# Altium integrated library Analog Devices Data Converters Analog-to-Digital Converters.IntLib: 2404 symbols (part 325 of 346)
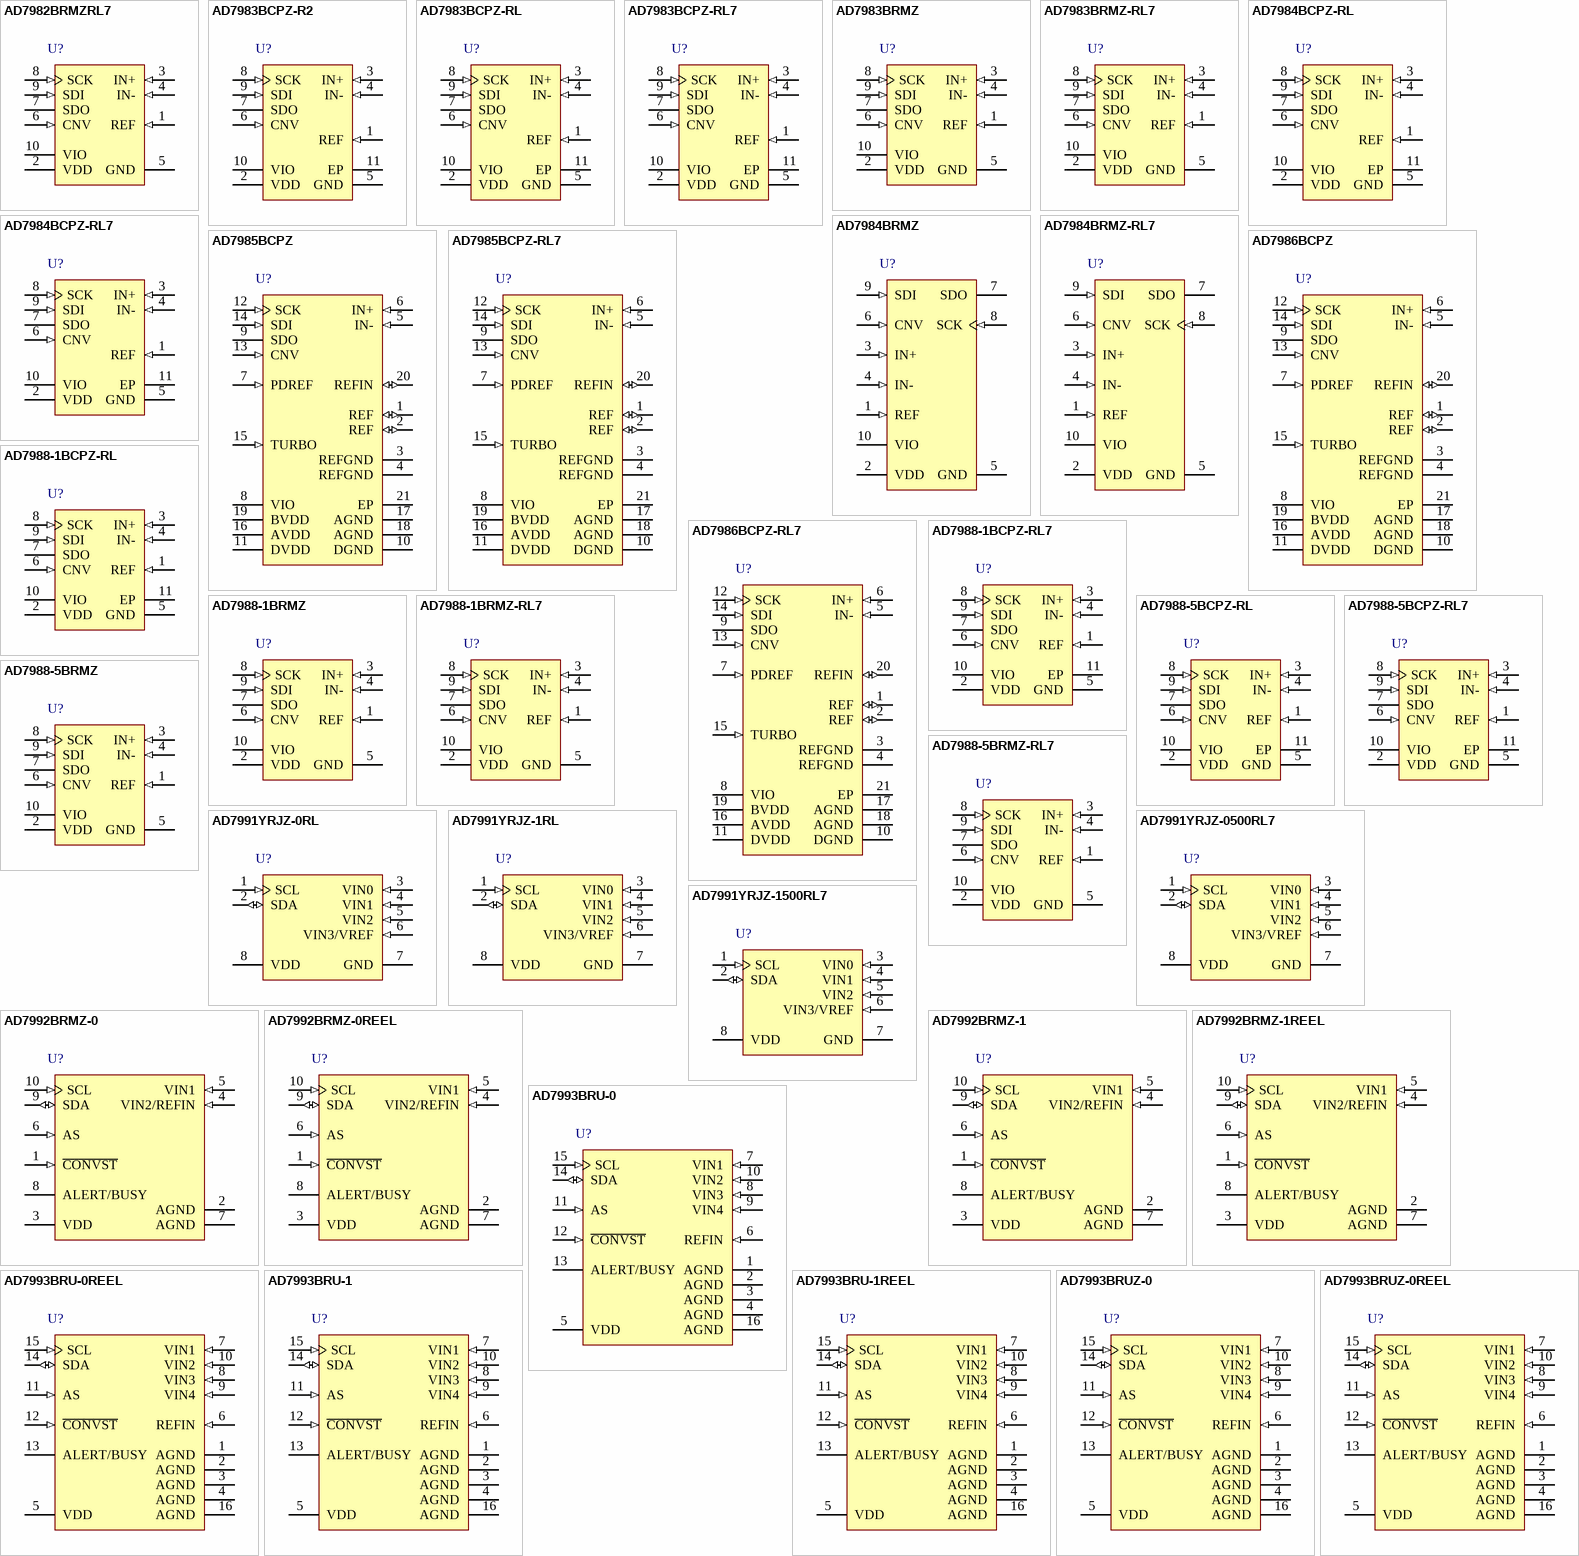
[diagram p329: symbols AD7982BRMZRL7 to AD7993BRUZ-0REEL]

## AD7986BCPZ-RL7
designator U?
Single 18-Bit PulSAR Analog-to-Digital Converter with Serial, SPI Interface, 2MSPS, -40 to +85 degC, CP-20-4, Pb-Free, Reel; Generic Part Number: AD7986; Manufacturer: Analog Devices; PartNumber: AD7986BCPZ-RL7; Resolution (Bits): 18; Channels: 1; Throughput Rate (SPS): 2M; Interface: Ser, SPI; DatasheetVersion: Rev.B; PackageVersion: 012508-B; PackageReference: CP-20-4; PackageDescription: 20-Lead Lead Frame Chip Scale Package [LFCSP_VQ] 4 x 4 mm Body, Very Thin Quad; Supplier 1: Digi-Key; Supplier Part Number 1: AD7986BCPZ-RL7-ND; Supplier 2: Mouser; Supplier Part Number 2: 584-AD7986BCPZ-R7; RoHS: Y; Packing: Reel; Mounting Technology: Surface Mount; Code_JEDEC: MO-220-VGGD-1; ComponentLink1Description: Manufacturer URL; ComponentLink1URL: http://www.analog.com/en/index.html; ComponentLink2Description: Datasheet; ComponentLink2URL: http://www.analog.com/static/imported-files/data_sheets/AD7986.pdf; ComponentLink3Description: Package Specification; ComponentLink3URL: http://www.analog.com/static/imported-files/packages/PKG_PDF/LFCSP(CP)/CP_20_4.pdf; ComponentLink4Description: Product URL; ComponentLink4URL: http://www.analog.com/en/analog-to-digital-converters/ad-converters/ad7986/products/product.html
footprint CP-20-4_N (QFN, 20-Leads, Body 4x4mm, Pitch 0.5mm, Thermal Pad 2.5x2.5mm, IPC Medium Density)
footprint CP-20-4_L (QFN, 20-Leads, Body 4x4mm, Pitch 0.5mm, Thermal Pad 2.5x2.5mm, IPC High Density)
footprint CP-20-4_M (QFN, 20-Leads, Body 4x4mm, Pitch 0.5mm, Thermal Pad 2.5x2.5mm, IPC Low Density)
pins: 1 REF (io) "Reference Output/Input Voltage. When PDREF = low, the internal reference and buffer are enabled, producing 4.096 V on this pin. When PDREF = high, the internal reference and buffer are disabled, allowing an externally (See Datasheet)", 2 REF (io) "Reference Output/Input Voltage. When PDREF = low, the internal reference and buffer are enabled, producing 4.096 V on this pin. When PDREF = high, the internal reference and buffer are disabled, allowing an externally (See Datasheet)", 3 REFGND (power) "Reference Input Analog Ground.", 4 REFGND (power) "Reference Input Analog Ground.", 5 IN- (in) "Differential Negative Analog Input.", 6 IN+ (in) "Differential Positive Analog Input.", 7 PDREF (in) "Internal Reference Power-Down Input. When low, the internal reference is enabled. When high, the internal reference is powered down and an external reference must be used.", 8 VIO (power) "Input/Output Interface Digital Power. Nominally at the same supply as the host interface (1.8 V, 2.5 V, or 2.7 V).", 9 SDO (hiz) "Serial Data Output. The conversion result is output on this pin. It is synchronized to SCK.", 10 DGND "Digital Power Ground.", 11 DVDD (power) "Digital Power. Nominally at 2.5 V.", 12 SCK (in) "Serial Data Clock Input. When the part is selected, the conversion result is shifted out by this clock.", 13 CNV (in) "Convert Input. This input has multiple functions. On its leading edge, it initiates the conversions and selects the interface mode of the part: chain mode or C\S\ mode. In C\S\ mode, the SDO pin is enabled when CNV is low. (See Datasheet)", 14 SDI (in) "Serial Data Input. This input provides multiple features. It selects the interface mode of the ADC as follows: Chain mode is selected if SDI is low during the CNV rising edge. In this mode, SDI is used as a data input to (See Datasheet)", 15 TURBO (in) "Conversion Mode Selection.When TURBO = high, the maximum throughput (2 MSPS) is achieved. The ADC does not power down between conversions. When TURBO = low, the maximum throughput is lower (1.5 MSPS). The ADC powers down (See Datasheet)", 16 AVDD (power) "Input Analog Power. Nominally at 2.5 V.", 17 AGND "Analog Power Ground.", 18 AGND "Analog Power Ground.", 19 BVDD (power) "Reference buffer power. Nominally 5.0 V. If an external reference buffer is used to achieve the maximum SNR performance with 5 V reference, the reference buffer must be powered down by connecting the REFIN pin to ground. The (See Datasheet)", 20 REFIN (io) "Internal Reference Output/Reference Buffer Input. When PDREF = low, the internal band gap reference produces a 1.2 V (typical) voltage on this pin, which needs external decoupling (0.1 µF typical). When PDREF = high, use an (See Datasheet)", 21 EP "The exposed pad is not connected internally. For increased reliability of the solder joints, it is recommended that the pad be soldered to the system ground plane."

## AD7988-1BCPZ-RL
designator U?
Single 16-Bit PulSAR Analog-to-Digital Converter with Serial, SPI Interface, 100KSPS, -40 to +125 degC, CP-10-9, Pb-Free, Reel; Generic Part Number: AD7988-1; Manufacturer: Analog Devices; PartNumber: AD7988-1BCPZ-RL; Resolution (Bits): 16; Channels: 1; Throughput Rate (SPS): 100K; Interface: Ser, SPI; DatasheetVersion: Rev.A; PackageVersion: 02-27-2012-B; PackageReference: CP-10-9; PackageDescription: 10-Lead Lead Frame Chip Scale Package [LFCSP_WD] 3 x 3 mm Body, Very Very Thin, Dual Lead; Supplier 1: Digi-Key; Supplier Part Number 1: AD7988-1BCPZ-RL-ND; Supplier 2: Mouser; Supplier Part Number 2: 584-AD7988-1BCPZ-R; RoHS: Y; Packing: Reel; Mounting Technology: Surface Mount; ComponentLink1Description: Manufacturer URL; ComponentLink1URL: http://www.analog.com/en/index.html; ComponentLink2Description: Datasheet; ComponentLink2URL: http://www.analog.com/static/imported-files/data_sheets/AD7988-1_7988-5.pdf; ComponentLink3Description: Package Specification; ComponentLink3URL: http://www.analog.com/static/imported-files/packages/CP_10_9.pdf; ComponentLink4Description: Product URL; ComponentLink4URL: http://www.analog.com/en/analog-to-digital-converters/ad-converters/ad7988-1/products/product.html
footprint CP-10-9_N (SON, 10-Leads, Body 3x3mm, Pitch 0.5mm, Thermal Pad 2.35x1.6mm, IPC Medium Density)
footprint CP-10-9_L (SON, 10-Leads, Body 3x3mm, Pitch 0.5mm, Thermal Pad 2.35x1.6mm, IPC High Density)
footprint CP-10-9_M (SON, 10-Leads, Body 3x3mm, Pitch 0.5mm, Thermal Pad 2.35x1.6mm, IPC Low Density)
pins: 1 REF (in) "Reference Input Voltage. The VREF range is from 2.4 V to 5.1 V. It is referred to the GND pin. The GND pin should be decoupled closely to the REF pin with a 10 uF capacitor.", 2 VDD (power) "Power Supply.", 3 IN+ (in) "Analog Input. It is referred to IN-. The voltage range, for example, the difference between IN+ and IN-, is 0 V to VREF.", 4 IN- (in) "Analog Input Ground Sense. Connect to the analog ground plane or to a remote sense ground.", 5 GND (power) "Power Supply Ground.", 6 CNV (in) "Convert Input. This input has multiple functions. On its leading edge, it initiates the conversions and selects the interface mode of the part: chain mode or C\S\ mode. In C\S\ mode, the SDO pin is enabled when CNV is low. (See Datasheet)", 7 SDO (hiz) "Serial Data Output. The conversion result is output on this pin. It is synchronized to SCK.", 8 SCK (in) "Serial Data Clock Input. When the part is selected, the conversion result is shifted out by this clock.", 9 SDI (in) "Serial Data Input. This input provides multiple features. It selects the interface mode of the ADC as follows: Chain mode is selected if this pin is low during the CNV rising edge. In this mode, SDI is used as a data input (See Datasheet)", 10 VIO (power) "Input/Output Interface Digital Power. Nominally at the same supply as the host interface (1.8 V, 2.5 V, 3 V, or 5 V).", 11 EP (power) "Exposed Pad. The exposed pad can be connected to GND."

## AD7988-1BCPZ-RL7
designator U?
Single 16-Bit PulSAR Analog-to-Digital Converter with Serial, SPI Interface, 100KSPS, -40 to +125 degC, CP-10-9, Pb-Free, Reel; Generic Part Number: AD7988-1; Manufacturer: Analog Devices; PartNumber: AD7988-1BCPZ-RL7; Resolution (Bits): 16; Channels: 1; Throughput Rate (SPS): 100K; Interface: Ser, SPI; DatasheetVersion: Rev.A; PackageVersion: 02-27-2012-B; PackageReference: CP-10-9; PackageDescription: 10-Lead Lead Frame Chip Scale Package [LFCSP_WD] 3 x 3 mm Body, Very Very Thin, Dual Lead; Supplier 1: Digi-Key; Supplier Part Number 1: AD7988-1BCPZ-RL7TR-ND; Supplier 2: Digi-Key; Supplier Part Number 2: AD7988-1BCPZ-RL7CT-ND; Supplier 3: Digi-Key; Supplier Part Number 3: AD7988-1BCPZ-RL7DKR-ND; Supplier 4: Mouser; Supplier Part Number 4: 584-AD7988-1BCPZ-R7; RoHS: Y; Packing: Reel; Mounting Technology: Surface Mount; ComponentLink1Description: Manufacturer URL; ComponentLink1URL: http://www.analog.com/en/index.html; ComponentLink2Description: Datasheet; ComponentLink2URL: http://www.analog.com/static/imported-files/data_sheets/AD7988-1_7988-5.pdf; ComponentLink3Description: Package Specification; ComponentLink3URL: http://www.analog.com/static/imported-files/packages/CP_10_9.pdf; ComponentLink4Description: Product URL; ComponentLink4URL: http://www.analog.com/en/analog-to-digital-converters/ad-converters/ad7988-1/products/product.html
footprint CP-10-9_N (SON, 10-Leads, Body 3x3mm, Pitch 0.5mm, Thermal Pad 2.35x1.6mm, IPC Medium Density)
footprint CP-10-9_L (SON, 10-Leads, Body 3x3mm, Pitch 0.5mm, Thermal Pad 2.35x1.6mm, IPC High Density)
footprint CP-10-9_M (SON, 10-Leads, Body 3x3mm, Pitch 0.5mm, Thermal Pad 2.35x1.6mm, IPC Low Density)
pins: 1 REF (in) "Reference Input Voltage. The VREF range is from 2.4 V to 5.1 V. It is referred to the GND pin. The GND pin should be decoupled closely to the REF pin with a 10 uF capacitor.", 2 VDD (power) "Power Supply.", 3 IN+ (in) "Analog Input. It is referred to IN-. The voltage range, for example, the difference between IN+ and IN-, is 0 V to VREF.", 4 IN- (in) "Analog Input Ground Sense. Connect to the analog ground plane or to a remote sense ground.", 5 GND (power) "Power Supply Ground.", 6 CNV (in) "Convert Input. This input has multiple functions. On its leading edge, it initiates the conversions and selects the interface mode of the part: chain mode or C\S\ mode. In C\S\ mode, the SDO pin is enabled when CNV is low. (See Datasheet)", 7 SDO (hiz) "Serial Data Output. The conversion result is output on this pin. It is synchronized to SCK.", 8 SCK (in) "Serial Data Clock Input. When the part is selected, the conversion result is shifted out by this clock.", 9 SDI (in) "Serial Data Input. This input provides multiple features. It selects the interface mode of the ADC as follows: Chain mode is selected if this pin is low during the CNV rising edge. In this mode, SDI is used as a data input (See Datasheet)", 10 VIO (power) "Input/Output Interface Digital Power. Nominally at the same supply as the host interface (1.8 V, 2.5 V, 3 V, or 5 V).", 11 EP (power) "Exposed Pad. The exposed pad can be connected to GND."

## AD7988-1BRMZ
designator U?
Single 16-Bit PulSAR Analog-to-Digital Converter with Serial, SPI Interface, 100KSPS, -40 to +125 degC, RM-10, Pb-Free, Tube; Generic Part Number: AD7988-1; Manufacturer: Analog Devices; PartNumber: AD7988-1BRMZ; Resolution (Bits): 16; Channels: 1; Throughput Rate (SPS): 100K; Interface: Ser, SPI; DatasheetVersion: Rev.A; PackageVersion: May-2005; PackageReference: RM-10; PackageDescription: 10-Lead Mini Small Outline Package [MSOP]; Supplier 1: Digi-Key; Supplier Part Number 1: AD7988-1BRMZ-ND; Supplier 2: Farnell; Supplier Part Number 2: 2081023; Supplier 3: Newark; Supplier Part Number 3: 82T3697; Supplier 4: Mouser; Supplier Part Number 4: 584-AD7988-1BRMZ; RoHS: Y; Packing: Tube; Mounting Technology: Surface Mount; ComponentLink1Description: Manufacturer URL; ComponentLink1URL: http://www.analog.com/en/index.html; ComponentLink2Description: Datasheet; ComponentLink2URL: http://www.analog.com/static/imported-files/data_sheets/AD7988-1_7988-5.pdf; ComponentLink3Description: Package Specification; ComponentLink3URL: http://www.analog.com/static/imported-files/packages/PKG_PDF/MSOP%28RM%29/RM_10.pdf; ComponentLink4Description: Product URL; ComponentLink4URL: http://www.analog.com/en/analog-to-digital-converters/ad-converters/ad7988-1/products/product.html
footprint RM-10_N (TSSOP, 10-Leads, Body 3x3mm, Pitch 0.5mm, IPC Medium Density)
footprint RM-10_L (TSSOP, 10-Leads, Body 3x3mm, Pitch 0.5mm, IPC High Density)
footprint RM-10_M (TSSOP, 10-Leads, Body 3x3mm, Pitch 0.5mm, IPC Low Density)
pins: 1 REF (in) "Reference Input Voltage. The VREF range is from 2.4 V to 5.1 V. It is referred to the GND pin. The GND pin should be decoupled closely to the REF pin with a 10 uF capacitor.", 2 VDD (power) "Power Supply", 3 IN+ (in) "Analog Input. It is referred to IN-. The voltage range, for example, the difference between IN+ and IN-, is 0 V to VREF", 4 IN- (in) "Analog Input Ground Sense. Connect to the analog ground plane or to a remote sense ground.", 5 GND (power) "Power Supply Ground.", 6 CNV (in) "Convert Input. This input has multiple functions. On its leading edge, it initiates the conversions and selects the interface mode of the part: chain mode or C\S\ mode. In C\S\ mode, the SDO pin is enabled when CNV is low. (See Datasheet)", 7 SDO (hiz) "Serial Data Output. The conversion result is output on this pin. It is synchronized to SCK.", 8 SCK (in) "Serial Data Clock Input. When the part is selected, the conversion result is shifted out by this clock.", 9 SDI (in) "Serial Data Input. This input provides multiple features. It selects the interface mode of the ADC as follows: Chain mode is selected if this pin is low during the CNV rising edge. In this mode, SDI is used as a data input (See Datasheet)", 10 VIO (power) "Input/Output Interface Digital Power. Nominally at the same supply as the host interface (1.8 V, 2.5 V, 3 V, or 5 V)."

## AD7988-1BRMZ-RL7
designator U?
Single 16-Bit PulSAR Analog-to-Digital Converter with Serial, SPI Interface, 100KSPS, -40 to +125 degC, RM-10, Pb-Free, Reel; Generic Part Number: AD7988-1; Manufacturer: Analog Devices; PartNumber: AD7988-1BRMZ-RL7; Resolution (Bits): 16; Channels: 1; Throughput Rate (SPS): 100K; Interface: Ser, SPI; DatasheetVersion: Rev.A; PackageVersion: May-2005; PackageReference: RM-10; PackageDescription: 10-Lead Mini Small Outline Package [MSOP]; Supplier 1: Digi-Key; Supplier Part Number 1: AD7988-1BRMZ-RL7-ND; Supplier 2: Mouser; Supplier Part Number 2: 584-AD7988-1BRMZ-R7; RoHS: Y; Packing: Reel; Mounting Technology: Surface Mount; ComponentLink1Description: Manufacturer URL; ComponentLink1URL: http://www.analog.com/en/index.html; ComponentLink2Description: Datasheet; ComponentLink2URL: http://www.analog.com/static/imported-files/data_sheets/AD7988-1_7988-5.pdf; ComponentLink3Description: Package Specification; ComponentLink3URL: http://www.analog.com/static/imported-files/packages/PKG_PDF/MSOP%28RM%29/RM_10.pdf; ComponentLink4Description: Product URL; ComponentLink4URL: http://www.analog.com/en/analog-to-digital-converters/ad-converters/ad7988-1/products/product.html
footprint RM-10_N (TSSOP, 10-Leads, Body 3x3mm, Pitch 0.5mm, IPC Medium Density)
footprint RM-10_L (TSSOP, 10-Leads, Body 3x3mm, Pitch 0.5mm, IPC High Density)
footprint RM-10_M (TSSOP, 10-Leads, Body 3x3mm, Pitch 0.5mm, IPC Low Density)
pins: 1 REF (in) "Reference Input Voltage. The VREF range is from 2.4 V to 5.1 V. It is referred to the GND pin. The GND pin should be decoupled closely to the REF pin with a 10 uF capacitor.", 2 VDD (power) "Power Supply", 3 IN+ (in) "Analog Input. It is referred to IN-. The voltage range, for example, the difference between IN+ and IN-, is 0 V to VREF", 4 IN- (in) "Analog Input Ground Sense. Connect to the analog ground plane or to a remote sense ground.", 5 GND (power) "Power Supply Ground.", 6 CNV (in) "Convert Input. This input has multiple functions. On its leading edge, it initiates the conversions and selects the interface mode of the part: chain mode or C\S\ mode. In C\S\ mode, the SDO pin is enabled when CNV is low. (See Datasheet)", 7 SDO (hiz) "Serial Data Output. The conversion result is output on this pin. It is synchronized to SCK.", 8 SCK (in) "Serial Data Clock Input. When the part is selected, the conversion result is shifted out by this clock.", 9 SDI (in) "Serial Data Input. This input provides multiple features. It selects the interface mode of the ADC as follows: Chain mode is selected if this pin is low during the CNV rising edge. In this mode, SDI is used as a data input (See Datasheet)", 10 VIO (power) "Input/Output Interface Digital Power. Nominally at the same supply as the host interface (1.8 V, 2.5 V, 3 V, or 5 V)."

## AD7988-5BCPZ-RL
designator U?
Single 16-Bit PulSAR Analog-to-Digital Converter with Serial, SPI Interface, 500KSPS, -40 to +125 degC, CP-10-9, Pb-Free, Reel; Generic Part Number: AD7988-5; Manufacturer: Analog Devices; PartNumber: AD7988-5BCPZ-RL; Resolution (Bits): 16; Channels: 1; Throughput Rate (SPS): 500K; Interface: Ser, SPI; DatasheetVersion: Rev.A; PackageVersion: 02-27-2012-B; PackageReference: CP-10-9; PackageDescription: 10-Lead Lead Frame Chip Scale Package [LFCSP_WD] 3 x 3 mm Body, Very Very Thin, Dual Lead; Supplier 1: Digi-Key; Supplier Part Number 1: AD7988-5BCPZ-RL-ND; Supplier 2: Newark; Supplier Part Number 2: 94T0058; Supplier 3: Mouser; Supplier Part Number 3: 584-AD7988-5BCPZ-R; RoHS: Y; Packing: Reel; Mounting Technology: Surface Mount; ComponentLink1Description: Manufacturer URL; ComponentLink1URL: http://www.analog.com/en/index.html; ComponentLink2Description: Datasheet; ComponentLink2URL: http://www.analog.com/static/imported-files/data_sheets/AD7988-1_7988-5.pdf; ComponentLink3Description: Package Specification; ComponentLink3URL: http://www.analog.com/static/imported-files/packages/CP_10_9.pdf; ComponentLink4Description: Product URL; ComponentLink4URL: http://www.analog.com/en/analog-to-digital-converters/ad-converters/ad7988-5/products/product.html
footprint CP-10-9_N (SON, 10-Leads, Body 3x3mm, Pitch 0.5mm, Thermal Pad 2.35x1.6mm, IPC Medium Density)
footprint CP-10-9_L (SON, 10-Leads, Body 3x3mm, Pitch 0.5mm, Thermal Pad 2.35x1.6mm, IPC High Density)
footprint CP-10-9_M (SON, 10-Leads, Body 3x3mm, Pitch 0.5mm, Thermal Pad 2.35x1.6mm, IPC Low Density)
pins: 1 REF (in) "Reference Input Voltage. The VREF range is from 2.4 V to 5.1 V. It is referred to the GND pin. The GND pin should be decoupled closely to the REF pin with a 10 uF capacitor.", 2 VDD (power) "Power Supply.", 3 IN+ (in) "Analog Input. It is referred to IN?. The voltage range, for example, the difference between IN+ and IN-, is 0 V to VREF.", 4 IN- (in) "Analog Input Ground Sense. Connect to the analog ground plane or to a remote sense ground.", 5 GND (power) "Power Supply Ground.", 6 CNV (in) "Convert Input. This input has multiple functions. On its leading edge, it initiates the conversions and selects the interface mode of the part: chain mode or C\S\ mode. In C\S\ mode, the SDO pin is enabled when CNV is low. (See Datasheet)", 7 SDO (hiz) "Serial Data Output. The conversion result is output on this pin. It is synchronized to SCK.", 8 SCK (in) "Serial Data Clock Input. When the part is selected, the conversion result is shifted out by this clock.", 9 SDI (in) "Serial Data Input. This input provides multiple features. It selects the interface mode of the ADC as follows: Chain mode is selected if this pin is low during the CNV rising edge. In this mode, SDI is used as a data input (See Datasheet)", 10 VIO (power) "Input/Output Interface Digital Power. Nominally at the same supply as the host interface (1.8 V, 2.5 V, 3 V, or 5 V).", 11 EP (power) "Exposed Pad. The exposed pad can be connected to GND."

## AD7988-5BCPZ-RL7
designator U?
Single 16-Bit PulSAR Analog-to-Digital Converter with Serial, SPI Interface, 500KSPS, -40 to +125 degC, CP-10-9, Pb-Free, Reel; Generic Part Number: AD7988-5; Manufacturer: Analog Devices; PartNumber: AD7988-5BCPZ-RL7; Resolution (Bits): 16; Channels: 1; Throughput Rate (SPS): 500K; Interface: Ser, SPI; DatasheetVersion: Rev.A; PackageVersion: 02-27-2012-B; PackageReference: CP-10-9; PackageDescription: 10-Lead Lead Frame Chip Scale Package [LFCSP_WD] 3 x 3 mm Body, Very Very Thin, Dual Lead; Supplier 1: Digi-Key; Supplier Part Number 1: AD7988-5BCPZ-RL7TR-ND; Supplier 2: Digi-Key; Supplier Part Number 2: AD7988-5BCPZ-RL7CT-ND; Supplier 3: Digi-Key; Supplier Part Number 3: AD7988-5BCPZ-RL7DKR-ND; Supplier 4: Mouser; Supplier Part Number 4: 584-AD7988-5BCPZ-R7; RoHS: Y; Packing: Reel; Mounting Technology: Surface Mount; ComponentLink1Description: Manufacturer URL; ComponentLink1URL: http://www.analog.com/en/index.html; ComponentLink2Description: Datasheet; ComponentLink2URL: http://www.analog.com/static/imported-files/data_sheets/AD7988-1_7988-5.pdf; ComponentLink3Description: Package Specification; ComponentLink3URL: http://www.analog.com/static/imported-files/packages/CP_10_9.pdf; ComponentLink4Description: Product URL; ComponentLink4URL: http://www.analog.com/en/analog-to-digital-converters/ad-converters/ad7988-5/products/product.html
footprint CP-10-9_N (SON, 10-Leads, Body 3x3mm, Pitch 0.5mm, Thermal Pad 2.35x1.6mm, IPC Medium Density)
footprint CP-10-9_L (SON, 10-Leads, Body 3x3mm, Pitch 0.5mm, Thermal Pad 2.35x1.6mm, IPC High Density)
footprint CP-10-9_M (SON, 10-Leads, Body 3x3mm, Pitch 0.5mm, Thermal Pad 2.35x1.6mm, IPC Low Density)
pins: 1 REF (in) "Reference Input Voltage. The VREF range is from 2.4 V to 5.1 V. It is referred to the GND pin. The GND pin should be decoupled closely to the REF pin with a 10 uF capacitor.", 2 VDD (power) "Power Supply.", 3 IN+ (in) "Analog Input. It is referred to IN?. The voltage range, for example, the difference between IN+ and IN-, is 0 V to VREF.", 4 IN- (in) "Analog Input Ground Sense. Connect to the analog ground plane or to a remote sense ground.", 5 GND (power) "Power Supply Ground.", 6 CNV (in) "Convert Input. This input has multiple functions. On its leading edge, it initiates the conversions and selects the interface mode of the part: chain mode or C\S\ mode. In C\S\ mode, the SDO pin is enabled when CNV is low. (See Datasheet)", 7 SDO (hiz) "Serial Data Output. The conversion result is output on this pin. It is synchronized to SCK.", 8 SCK (in) "Serial Data Clock Input. When the part is selected, the conversion result is shifted out by this clock.", 9 SDI (in) "Serial Data Input. This input provides multiple features. It selects the interface mode of the ADC as follows: Chain mode is selected if this pin is low during the CNV rising edge. In this mode, SDI is used as a data input (See Datasheet)", 10 VIO (power) "Input/Output Interface Digital Power. Nominally at the same supply as the host interface (1.8 V, 2.5 V, 3 V, or 5 V).", 11 EP (power) "Exposed Pad. The exposed pad can be connected to GND."

## AD7988-5BRMZ
designator U?
Single 16-Bit PulSAR Analog-to-Digital Converter with Serial, SPI Interface, 500KSPS, -40 to +125 degC, RM-10, Pb-Free, Tube; Generic Part Number: AD7988-5; Manufacturer: Analog Devices; PartNumber: AD7988-5BRMZ; Resolution (Bits): 16; Channels: 1; Throughput Rate (SPS): 500K; Interface: Ser, SPI; DatasheetVersion: Rev.A; PackageVersion: May-2005; PackageReference: RM-10; PackageDescription: 10-Lead Mini Small Outline Package [MSOP]; Supplier 1: Digi-Key; Supplier Part Number 1: AD7988-5BRMZ-ND; Supplier 2: Farnell; Supplier Part Number 2: 2081026; Supplier 3: Newark; Supplier Part Number 3: 82T3699; Supplier 4: Newark; Supplier Part Number 4: 83T2177; Supplier 5: Mouser; Supplier Part Number 5: 584-AD7988-5BRMZ; RoHS: Y; Packing: Tube; Mounting Technology: Surface Mount; ComponentLink1Description: Manufacturer URL; ComponentLink1URL: http://www.analog.com/en/index.html; ComponentLink2Description: Datasheet; ComponentLink2URL: http://www.analog.com/static/imported-files/data_sheets/AD7988-1_7988-5.pdf; ComponentLink3Description: Package Specification; ComponentLink3URL: http://www.analog.com/static/imported-files/packages/PKG_PDF/MSOP%28RM%29/RM_10.pdf; ComponentLink4Description: Product URL; ComponentLink4URL: http://www.analog.com/en/analog-to-digital-converters/ad-converters/ad7988-5/products/product.html
footprint RM-10_N (TSSOP, 10-Leads, Body 3x3mm, Pitch 0.5mm, IPC Medium Density)
footprint RM-10_L (TSSOP, 10-Leads, Body 3x3mm, Pitch 0.5mm, IPC High Density)
footprint RM-10_M (TSSOP, 10-Leads, Body 3x3mm, Pitch 0.5mm, IPC Low Density)
pins: 1 REF (in) "Reference Input Voltage. The VREF range is from 2.4 V to 5.1 V. It is referred to the GND pin. The GND pin should be decoupled closely to the REF pin with a 10 uF capacitor.", 2 VDD (power) "Power Supply", 3 IN+ (in) "Analog Input. It is referred to IN-. The voltage range, for example, the difference between IN+ and IN-, is 0 V to VREF", 4 IN- (in) "Analog Input Ground Sense. Connect to the analog ground plane or to a remote sense ground.", 5 GND (power) "Power Supply Ground.", 6 CNV (in) "Convert Input. This input has multiple functions. On its leading edge, it initiates the conversions and selects the interface mode of the part: chain mode or C\S\ mode. In C\S\ mode, the SDO pin is enabled when CNV is low. (See Datasheet)", 7 SDO (hiz) "Serial Data Output. The conversion result is output on this pin. It is synchronized to SCK.", 8 SCK (in) "Serial Data Clock Input. When the part is selected, the conversion result is shifted out by this clock.", 9 SDI (in) "Serial Data Input. This input provides multiple features. It selects the interface mode of the ADC as follows: Chain mode is selected if this pin is low during the CNV rising edge. In this mode, SDI is used as a data input (See Datasheet)", 10 VIO (power) "Input/Output Interface Digital Power. Nominally at the same supply as the host interface (1.8 V, 2.5 V, 3 V, or 5 V)."

## AD7988-5BRMZ-RL7
designator U?
Single 16-Bit PulSAR Analog-to-Digital Converter with Serial, SPI Interface, 500KSPS, -40 to +125 degC, RM-10, Pb-Free, Reel; Generic Part Number: AD7988-5; Manufacturer: Analog Devices; PartNumber: AD7988-5BRMZ-RL7; Resolution (Bits): 16; Channels: 1; Throughput Rate (SPS): 500K; Interface: Ser, SPI; DatasheetVersion: Rev.A; PackageVersion: May-2005; PackageReference: RM-10; PackageDescription: 10-Lead Mini Small Outline Package [MSOP]; Supplier 1: Digi-Key; Supplier Part Number 1: AD7988-5BRMZ-RL7-ND; Supplier 2: Newark; Supplier Part Number 2: 82T3700; Supplier 3: Mouser; Supplier Part Number 3: 584-AD7988-5BRMZ-R7; RoHS: Y; Packing: Reel; Mounting Technology: Surface Mount; ComponentLink1Description: Manufacturer URL; ComponentLink1URL: http://www.analog.com/en/index.html; ComponentLink2Description: Datasheet; ComponentLink2URL: http://www.analog.com/static/imported-files/data_sheets/AD7988-1_7988-5.pdf; ComponentLink3Description: Package Specification; ComponentLink3URL: http://www.analog.com/static/imported-files/packages/PKG_PDF/MSOP%28RM%29/RM_10.pdf; ComponentLink4Description: Product URL; ComponentLink4URL: http://www.analog.com/en/analog-to-digital-converters/ad-converters/ad7988-5/products/product.html
footprint RM-10_N (TSSOP, 10-Leads, Body 3x3mm, Pitch 0.5mm, IPC Medium Density)
footprint RM-10_L (TSSOP, 10-Leads, Body 3x3mm, Pitch 0.5mm, IPC High Density)
footprint RM-10_M (TSSOP, 10-Leads, Body 3x3mm, Pitch 0.5mm, IPC Low Density)
pins: 1 REF (in) "Reference Input Voltage. The VREF range is from 2.4 V to 5.1 V. It is referred to the GND pin. The GND pin should be decoupled closely to the REF pin with a 10 uF capacitor.", 2 VDD (power) "Power Supply", 3 IN+ (in) "Analog Input. It is referred to IN-. The voltage range, for example, the difference between IN+ and IN-, is 0 V to VREF", 4 IN- (in) "Analog Input Ground Sense. Connect to the analog ground plane or to a remote sense ground.", 5 GND (power) "Power Supply Ground.", 6 CNV (in) "Convert Input. This input has multiple functions. On its leading edge, it initiates the conversions and selects the interface mode of the part: chain mode or C\S\ mode. In C\S\ mode, the SDO pin is enabled when CNV is low. (See Datasheet)", 7 SDO (hiz) "Serial Data Output. The conversion result is output on this pin. It is synchronized to SCK.", 8 SCK (in) "Serial Data Clock Input. When the part is selected, the conversion result is shifted out by this clock.", 9 SDI (in) "Serial Data Input. This input provides multiple features. It selects the interface mode of the ADC as follows: Chain mode is selected if this pin is low during the CNV rising edge. In this mode, SDI is used as a data input (See Datasheet)", 10 VIO (power) "Input/Output Interface Digital Power. Nominally at the same supply as the host interface (1.8 V, 2.5 V, 3 V, or 5 V)."

## AD7991YRJZ-0RL
designator U?
Quad 12-Bit Analog-to-Digital Converter with I2C, Serial 2-Wire Interface, 140KSPS, -40 to +125 degC, RJ-8, Pb-Free, Reel; Generic Part Number: AD7991; Manufacturer: Analog Devices; PartNumber: AD7991YRJZ-0RL; Resolution (Bits): 12; Channels: 4; Throughput Rate (SPS): 140K; Interface: I2C/Ser 2-Wire; DatasheetVersion: Rev.B; PackageVersion: 121608-A; PackageReference: RJ-8; PackageDescription: 8-Lead Thin Small Outline Transistor Package [SOT-23]; Supplier 1: Digi-Key; Supplier Part Number 1: AD7991YRJZ-0RL-ND; Supplier 2: Newark; Supplier Part Number 2: 77M9949; Supplier 3: Mouser; Supplier Part Number 3: 584-AD7991YRJZ-0R; RoHS: Y; Packing: Reel; Mounting Technology: Surface Mount; Code_JEDEC: MO-178-BA; ComponentLink1Description: Manufacturer URL; ComponentLink1URL: http://www.analog.com/en/index.html; ComponentLink2Description: Datasheet; ComponentLink2URL: http://www.analog.com/static/imported-files/data_sheets/AD7991_7995_7999.pdf; ComponentLink3Description: Package Specification; ComponentLink3URL: http://www.analog.com/static/imported-files/packages/PKG_PDF/SOT-23(RJ)/RJ_8.pdf; ComponentLink4Description: Product URL; ComponentLink4URL: http://www.analog.com/en/analog-to-digital-converters/ad-converters/ad7991/products/product.html
footprint RJ-8_N (SOP, 8-Leads, Body 2.9x1.6mm, Pitch 0.65mm, IPC Medium Density)
footprint RJ-8_L (SOP, 8-Leads, Body 2.9x1.6mm, Pitch 0.65mm, IPC High Density)
footprint RJ-8_M (SOP, 8-Leads, Body 2.9x1.6mm, Pitch 0.65mm, IPC Low Density)
pins: 1 SCL (in) "Digital Input. Serial bus clock. External pull-up resistor required.", 2 SDA (io) "Digital I/O. Serial bus bidirectional data. Open-drain output. External pull-up resistor required.", 3 VIN0 (in) "Analog Input 1. Single-ended analog input channel. The input range is 0 V to VREF.", 4 VIN1 (in) "Analog Input 2. Single-ended analog input channel. The input range is 0 V to VREF.", 5 VIN2 (in) "Analog Input 3. Single-ended analog input channel. The input range is 0 V to VREF.", 6 VIN3/VREF (in) "Analog Input 4. Single-ended analog input channel. The input range is 0 V to VREF. Can also be used to input an external VREF signal.", 7 GND (power) "Analog Ground. Ground reference point for all circuitry on the AD7991/AD7995/AD7999. All analog input signals should be referred to this AGND voltage.", 8 VDD (power) "Power Supply Input. The VDD range for the AD7991/AD7995/AD7999 is from 2.7 V to 5.5 V."

## AD7991YRJZ-1RL
designator U?
Quad 12-Bit Analog-to-Digital Converter with I2C, Serial 2-Wire Interface, 140KSPS, -40 to +125 degC, RJ-8, Pb-Free, Reel; Generic Part Number: AD7991; Manufacturer: Analog Devices; PartNumber: AD7991YRJZ-1RL; Resolution (Bits): 12; Channels: 4; Throughput Rate (SPS): 140K; Interface: I2C/Ser 2-Wire; DatasheetVersion: Rev.B; PackageVersion: 121608-A; PackageReference: RJ-8; PackageDescription: 8-Lead Thin Small Outline Transistor Package [SOT-23]; Supplier 1: Digi-Key; Supplier Part Number 1: AD7991YRJZ-1RL-ND; Supplier 2: Newark; Supplier Part Number 2: 77M9951; Supplier 3: Mouser; Supplier Part Number 3: 584-AD7991YRJZ-1R; RoHS: Y; Packing: Reel; Mounting Technology: Surface Mount; Code_JEDEC: MO-178-BA; ComponentLink1Description: Manufacturer URL; ComponentLink1URL: http://www.analog.com/en/index.html; ComponentLink2Description: Datasheet; ComponentLink2URL: http://www.analog.com/static/imported-files/data_sheets/AD7991_7995_7999.pdf; ComponentLink3Description: Package Specification; ComponentLink3URL: http://www.analog.com/static/imported-files/packages/PKG_PDF/SOT-23(RJ)/RJ_8.pdf; ComponentLink4Description: Product URL; ComponentLink4URL: http://www.analog.com/en/analog-to-digital-converters/ad-converters/ad7991/products/product.html
footprint RJ-8_N (SOP, 8-Leads, Body 2.9x1.6mm, Pitch 0.65mm, IPC Medium Density)
footprint RJ-8_L (SOP, 8-Leads, Body 2.9x1.6mm, Pitch 0.65mm, IPC High Density)
footprint RJ-8_M (SOP, 8-Leads, Body 2.9x1.6mm, Pitch 0.65mm, IPC Low Density)
pins: 1 SCL (in) "Digital Input. Serial bus clock. External pull-up resistor required.", 2 SDA (io) "Digital I/O. Serial bus bidirectional data. Open-drain output. External pull-up resistor required.", 3 VIN0 (in) "Analog Input 1. Single-ended analog input channel. The input range is 0 V to VREF.", 4 VIN1 (in) "Analog Input 2. Single-ended analog input channel. The input range is 0 V to VREF.", 5 VIN2 (in) "Analog Input 3. Single-ended analog input channel. The input range is 0 V to VREF.", 6 VIN3/VREF (in) "Analog Input 4. Single-ended analog input channel. The input range is 0 V to VREF. Can also be used to input an external VREF signal.", 7 GND (power) "Analog Ground. Ground reference point for all circuitry on the AD7991/AD7995/AD7999. All analog input signals should be referred to this AGND voltage.", 8 VDD (power) "Power Supply Input. The VDD range for the AD7991/AD7995/AD7999 is from 2.7 V to 5.5 V."

## AD7991YRJZ-0500RL7
designator U?
Quad 12-Bit Analog-to-Digital Converter with I2C, Serial 2-Wire Interface, 140KSPS, -40 to +125 degC, RJ-8, Pb-Free, Reel; Generic Part Number: AD7991; Manufacturer: Analog Devices; PartNumber: AD7991YRJZ-0500RL7; Resolution (Bits): 12; Channels: 4; Throughput Rate (SPS): 140K; Interface: I2C/Ser 2-Wire; DatasheetVersion: Rev.B; PackageVersion: 121608-A; PackageReference: RJ-8; PackageDescription: 8-Lead Thin Small Outline Transistor Package [SOT-23]; Supplier 1: Digi-Key; Supplier Part Number 1: AD7991YRJZ-0500RL7TR-ND; Supplier 2: Digi-Key; Supplier Part Number 2: AD7991YRJZ-0500RL7CT-ND; Supplier 3: Digi-Key; Supplier Part Number 3: AD7991YRJZ-0500RL7DKR-ND; Supplier 4: Farnell; Supplier Part Number 4: 1607235; Supplier 5: Newark; Supplier Part Number 5: 15P0909; Supplier 6: Newark; Supplier Part Number 6: 77M9950; Supplier 7: Mouser; Supplier Part Number 7: 584-AD7991YRJZ0500R7; RoHS: Y; Packing: Reel; Mounting Technology: Surface Mount; Code_JEDEC: MO-178-BA; ComponentLink1Description: Manufacturer URL; ComponentLink1URL: http://www.analog.com/en/index.html; ComponentLink2Description: Datasheet; ComponentLink2URL: http://www.analog.com/static/imported-files/data_sheets/AD7991_7995_7999.pdf; ComponentLink3Description: Package Specification; ComponentLink3URL: http://www.analog.com/static/imported-files/packages/PKG_PDF/SOT-23(RJ)/RJ_8.pdf; ComponentLink4Description: Product URL; ComponentLink4URL: http://www.analog.com/en/analog-to-digital-converters/ad-converters/ad7991/products/product.html
footprint RJ-8_N (SOP, 8-Leads, Body 2.9x1.6mm, Pitch 0.65mm, IPC Medium Density)
footprint RJ-8_L (SOP, 8-Leads, Body 2.9x1.6mm, Pitch 0.65mm, IPC High Density)
footprint RJ-8_M (SOP, 8-Leads, Body 2.9x1.6mm, Pitch 0.65mm, IPC Low Density)
pins: 1 SCL (in) "Digital Input. Serial bus clock. External pull-up resistor required.", 2 SDA (io) "Digital I/O. Serial bus bidirectional data. Open-drain output. External pull-up resistor required.", 3 VIN0 (in) "Analog Input 1. Single-ended analog input channel. The input range is 0 V to VREF.", 4 VIN1 (in) "Analog Input 2. Single-ended analog input channel. The input range is 0 V to VREF.", 5 VIN2 (in) "Analog Input 3. Single-ended analog input channel. The input range is 0 V to VREF.", 6 VIN3/VREF (in) "Analog Input 4. Single-ended analog input channel. The input range is 0 V to VREF. Can also be used to input an external VREF signal.", 7 GND (power) "Analog Ground. Ground reference point for all circuitry on the AD7991/AD7995/AD7999. All analog input signals should be referred to this AGND voltage.", 8 VDD (power) "Power Supply Input. The VDD range for the AD7991/AD7995/AD7999 is from 2.7 V to 5.5 V."

## AD7991YRJZ-1500RL7
designator U?
Quad 12-Bit Analog-to-Digital Converter with I2C, Serial 2-Wire Interface, 140KSPS, -40 to +125 degC, RJ-8, Pb-Free, Reel; Generic Part Number: AD7991; Manufacturer: Analog Devices; PartNumber: AD7991YRJZ-1500RL7; Resolution (Bits): 12; Channels: 4; Throughput Rate (SPS): 140K; Interface: I2C/Ser 2-Wire; DatasheetVersion: Rev.B; PackageVersion: 121608-A; PackageReference: RJ-8; PackageDescription: 8-Lead Thin Small Outline Transistor Package [SOT-23]; Supplier 1: Digi-Key; Supplier Part Number 1: AD7991YRJZ-1500RL7TR-ND; Supplier 2: Digi-Key; Supplier Part Number 2: AD7991YRJZ-1500RL7CT-ND; Supplier 3: Digi-Key; Supplier Part Number 3: AD7991YRJZ-1500RL7DKR-ND; Supplier 4: Newark; Supplier Part Number 4: 77M9952; Supplier 5: Mouser; Supplier Part Number 5: 584-AD7991YRJZ1500R7; RoHS: Y; Packing: Reel; Mounting Technology: Surface Mount; Code_JEDEC: MO-178-BA; ComponentLink1Description: Manufacturer URL; ComponentLink1URL: http://www.analog.com/en/index.html; ComponentLink2Description: Datasheet; ComponentLink2URL: http://www.analog.com/static/imported-files/data_sheets/AD7991_7995_7999.pdf; ComponentLink3Description: Package Specification; ComponentLink3URL: http://www.analog.com/static/imported-files/packages/PKG_PDF/SOT-23(RJ)/RJ_8.pdf; ComponentLink4Description: Product URL; ComponentLink4URL: http://www.analog.com/en/analog-to-digital-converters/ad-converters/ad7991/products/product.html
footprint RJ-8_N (SOP, 8-Leads, Body 2.9x1.6mm, Pitch 0.65mm, IPC Medium Density)
footprint RJ-8_L (SOP, 8-Leads, Body 2.9x1.6mm, Pitch 0.65mm, IPC High Density)
footprint RJ-8_M (SOP, 8-Leads, Body 2.9x1.6mm, Pitch 0.65mm, IPC Low Density)
pins: 1 SCL (in) "Digital Input. Serial bus clock. External pull-up resistor required.", 2 SDA (io) "Digital I/O. Serial bus bidirectional data. Open-drain output. External pull-up resistor required.", 3 VIN0 (in) "Analog Input 1. Single-ended analog input channel. The input range is 0 V to VREF.", 4 VIN1 (in) "Analog Input 2. Single-ended analog input channel. The input range is 0 V to VREF.", 5 VIN2 (in) "Analog Input 3. Single-ended analog input channel. The input range is 0 V to VREF.", 6 VIN3/VREF (in) "Analog Input 4. Single-ended analog input channel. The input range is 0 V to VREF. Can also be used to input an external VREF signal.", 7 GND (power) "Analog Ground. Ground reference point for all circuitry on the AD7991/AD7995/AD7999. All analog input signals should be referred to this AGND voltage.", 8 VDD (power) "Power Supply Input. The VDD range for the AD7991/AD7995/AD7999 is from 2.7 V to 5.5 V."

## AD7992BRMZ-0
designator U?
Dual 12-Bit Analog-to-Digital Converter with I2C / Ser 2-Wire, Serial Interface, 79KSPS, -40 to +125 degC, RM-10, Pb-Free, Tube; Generic Part Number: AD7992; Manufacturer: Analog Devices; PartNumber: AD7992BRMZ-0; Resolution (Bits): 12; Channels: 2; Throughput Rate (SPS): 79K; DatasheetVersion: Rev.0; PackageVersion: May-2005; PackageReference: RM-10; PackageDescription: 10-Lead Mini Small Outline Package [MSOP]; Supplier 1: Digi-Key; Supplier Part Number 1: AD7992BRMZ-0-ND; Supplier 2: Farnell; Supplier Part Number 2: 1078311; Supplier 3: Newark; Supplier Part Number 3: 31M4422; Supplier 4: Newark; Supplier Part Number 4: 59K6093; Supplier 5: Mouser; Supplier Part Number 5: 584-AD7992BRMZ-0; Interface: I2C/Ser 2-Wire, Ser; RoHS: Y; Packing: Tube; Mounting Technology: Surface Mount; ComponentLink1Description: Manufacturer URL; ComponentLink1URL: http://www.analog.com/en/index.html; ComponentLink2Description: Datasheet; ComponentLink2URL: http://www.analog.com/static/imported-files/data_sheets/AD7992.pdf; ComponentLink3Description: Package Specification; ComponentLink3URL: http://www.analog.com/static/imported-files/packages/PKG_PDF/MSOP%28RM%29/RM_10.pdf; ComponentLink4Description: Product URL; ComponentLink4URL: http://www.analog.com/en/analog-to-digital-converters/ad-converters/ad7992/products/product.html
footprint RM-10_N (TSSOP, 10-Leads, Body 3x3mm, Pitch 0.5mm, IPC Medium Density)
footprint RM-10_L (TSSOP, 10-Leads, Body 3x3mm, Pitch 0.5mm, IPC High Density)
footprint RM-10_M (TSSOP, 10-Leads, Body 3x3mm, Pitch 0.5mm, IPC Low Density)
pins: 1 ~{CONVST} (in) "Logic Input Signal. Convert start signal. This is an edge-triggered logic input. The rising edge of this signal powers up the part. The power up time for the part is 1 us. The falling edge of C\O\N\V\S\T\ places the (See Datasheet)", 2 AGND (power) "Analog Ground. Ground reference point for all circuitry on the AD7992. All analog input signals should be referred to this GND voltage.", 3 VDD (power) "Power Supply Input. The VDD range for the AD7992 is from 2.7 V to 5.5 V.", 4 VIN2/REFIN (in) "Analog Input 2/Voltage Reference Input. In single-channel mode, this pin becomes the reference voltage input; an external reference should be applied at this pin. The external reference input range is 1.2 V to VDD. A 0.1 uF (See Datasheet)", 5 VIN1 (in) "Analog Input 1. Single-ended analog input channel. The input range is 0 V to REFIN.", 6 AS (in) "Logic Input. Address select input that selects one of three I2C addresses for the AD7992, as shown in Table 6.", 7 AGND (power) "Analog Ground. Ground reference point for all circuitry on the AD7992. All analog input signals should be referred to this GND voltage.", 8 ALERT/BUSY (oc) "Digital Output. Selectable as an ALERT or BUSY output function. When configured as an ALERT, this pin acts as an out-of-range indicator and, if enabled, becomes active when the conversion result violates the DATAHIGH or (See Datasheet)", 9 SDA (io) "Digital I/O. Serial bus bidirectional data. Open-drain output. An external pull-up resistor is required.", 10 SCL (in) "Digital Input. Serial bus clock. Open-drain output. An external pull-up resistor is required."

## AD7992BRMZ-0REEL
designator U?
Dual 12-Bit Analog-to-Digital Converter with I2C / Ser 2-Wire, Serial Interface, 79KSPS, -40 to +125 degC, RM-10, Pb-Free, Reel; Generic Part Number: AD7992; Manufacturer: Analog Devices; PartNumber: AD7992BRMZ-0REEL; Resolution (Bits): 12; Channels: 2; Throughput Rate (SPS): 79K; DatasheetVersion: Rev.0; PackageVersion: May-2005; PackageReference: RM-10; PackageDescription: 10-Lead Mini Small Outline Package [MSOP]; Supplier 1: Digi-Key; Supplier Part Number 1: AD7992BRMZ-0REEL-ND; Supplier 2: Newark; Supplier Part Number 2: 59K6094; Supplier 3: Mouser; Supplier Part Number 3: 584-AD7992BRMZ-0R; Interface: I2C/Ser 2-Wire, Ser; RoHS: Y; Packing: Reel; Mounting Technology: Surface Mount; ComponentLink1Description: Manufacturer URL; ComponentLink1URL: http://www.analog.com/en/index.html; ComponentLink2Description: Datasheet; ComponentLink2URL: http://www.analog.com/static/imported-files/data_sheets/AD7992.pdf; ComponentLink3Description: Package Specification; ComponentLink3URL: http://www.analog.com/static/imported-files/packages/PKG_PDF/MSOP%28RM%29/RM_10.pdf; ComponentLink4Description: Product URL; ComponentLink4URL: http://www.analog.com/en/analog-to-digital-converters/ad-converters/ad7992/products/product.html
footprint RM-10_N (TSSOP, 10-Leads, Body 3x3mm, Pitch 0.5mm, IPC Medium Density)
footprint RM-10_L (TSSOP, 10-Leads, Body 3x3mm, Pitch 0.5mm, IPC High Density)
footprint RM-10_M (TSSOP, 10-Leads, Body 3x3mm, Pitch 0.5mm, IPC Low Density)
pins: 1 ~{CONVST} (in) "Logic Input Signal. Convert start signal. This is an edge-triggered logic input. The rising edge of this signal powers up the part. The power up time for the part is 1 us. The falling edge of C\O\N\V\S\T\ places the (See Datasheet)", 2 AGND (power) "Analog Ground. Ground reference point for all circuitry on the AD7992. All analog input signals should be referred to this GND voltage.", 3 VDD (power) "Power Supply Input. The VDD range for the AD7992 is from 2.7 V to 5.5 V.", 4 VIN2/REFIN (in) "Analog Input 2/Voltage Reference Input. In single-channel mode, this pin becomes the reference voltage input; an external reference should be applied at this pin. The external reference input range is 1.2 V to VDD. A 0.1 uF (See Datasheet)", 5 VIN1 (in) "Analog Input 1. Single-ended analog input channel. The input range is 0 V to REFIN.", 6 AS (in) "Logic Input. Address select input that selects one of three I2C addresses for the AD7992, as shown in Table 6.", 7 AGND (power) "Analog Ground. Ground reference point for all circuitry on the AD7992. All analog input signals should be referred to this GND voltage.", 8 ALERT/BUSY (oc) "Digital Output. Selectable as an ALERT or BUSY output function. When configured as an ALERT, this pin acts as an out-of-range indicator and, if enabled, becomes active when the conversion result violates the DATAHIGH or (See Datasheet)", 9 SDA (io) "Digital I/O. Serial bus bidirectional data. Open-drain output. An external pull-up resistor is required.", 10 SCL (in) "Digital Input. Serial bus clock. Open-drain output. An external pull-up resistor is required."

## AD7992BRMZ-1
designator U?
Dual 12-Bit Analog-to-Digital Converter with I2C / Ser 2-Wire, Serial Interface, 79KSPS, -40 to +125 degC, RM-10, Pb-Free, Tube; Generic Part Number: AD7992; Manufacturer: Analog Devices; PartNumber: AD7992BRMZ-1; Resolution (Bits): 12; Channels: 2; Throughput Rate (SPS): 79K; DatasheetVersion: Rev.0; PackageVersion: May-2005; PackageReference: RM-10; PackageDescription: 10-Lead Mini Small Outline Package [MSOP]; Supplier 1: Digi-Key; Supplier Part Number 1: AD7992BRMZ-1-ND; Supplier 2: Farnell; Supplier Part Number 2: 1078312; Supplier 3: Newark; Supplier Part Number 3: 59K6095; Supplier 4: Mouser; Supplier Part Number 4: 584-AD7992BRMZ-1; Interface: I2C/Ser 2-Wire, Ser; RoHS: Y; Packing: Tube; Mounting Technology: Surface Mount; ComponentLink1Description: Manufacturer URL; ComponentLink1URL: http://www.analog.com/en/index.html; ComponentLink2Description: Datasheet; ComponentLink2URL: http://www.analog.com/static/imported-files/data_sheets/AD7992.pdf; ComponentLink3Description: Package Specification; ComponentLink3URL: http://www.analog.com/static/imported-files/packages/PKG_PDF/MSOP%28RM%29/RM_10.pdf; ComponentLink4Description: Product URL; ComponentLink4URL: http://www.analog.com/en/analog-to-digital-converters/ad-converters/ad7992/products/product.html
footprint RM-10_N (TSSOP, 10-Leads, Body 3x3mm, Pitch 0.5mm, IPC Medium Density)
footprint RM-10_L (TSSOP, 10-Leads, Body 3x3mm, Pitch 0.5mm, IPC High Density)
footprint RM-10_M (TSSOP, 10-Leads, Body 3x3mm, Pitch 0.5mm, IPC Low Density)
pins: 1 ~{CONVST} (in) "Logic Input Signal. Convert start signal. This is an edge-triggered logic input. The rising edge of this signal powers up the part. The power up time for the part is 1 us. The falling edge of C\O\N\V\S\T\ places the (See Datasheet)", 2 AGND (power) "Analog Ground. Ground reference point for all circuitry on the AD7992. All analog input signals should be referred to this GND voltage.", 3 VDD (power) "Power Supply Input. The VDD range for the AD7992 is from 2.7 V to 5.5 V.", 4 VIN2/REFIN (in) "Analog Input 2/Voltage Reference Input. In single-channel mode, this pin becomes the reference voltage input; an external reference should be applied at this pin. The external reference input range is 1.2 V to VDD. A 0.1 uF (See Datasheet)", 5 VIN1 (in) "Analog Input 1. Single-ended analog input channel. The input range is 0 V to REFIN.", 6 AS (in) "Logic Input. Address select input that selects one of three I2C addresses for the AD7992, as shown in Table 6.", 7 AGND (power) "Analog Ground. Ground reference point for all circuitry on the AD7992. All analog input signals should be referred to this GND voltage.", 8 ALERT/BUSY (oc) "Digital Output. Selectable as an ALERT or BUSY output function. When configured as an ALERT, this pin acts as an out-of-range indicator and, if enabled, becomes active when the conversion result violates the DATAHIGH or (See Datasheet)", 9 SDA (io) "Digital I/O. Serial bus bidirectional data. Open-drain output. An external pull-up resistor is required.", 10 SCL (in) "Digital Input. Serial bus clock. Open-drain output. An external pull-up resistor is required."